# EAGLE library part 25S- (library Chips)
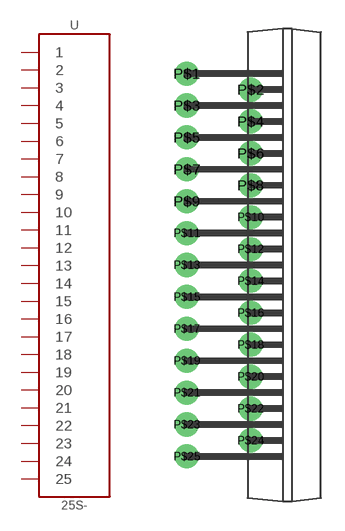
[diagram p7: symbol with the pads of 25TA; footprint 25TA]

Designator prefix U

## 25S-"  [25TA]
P$1  1
P$2  2
P$3  3
P$4  4
P$5  5
P$6  6
P$7  7
P$8  8
P$9  9
P$10  10
P$11  11
P$12  12
P$13  13
P$14  14
P$15  15
P$16  16
P$17  17
P$18  18
P$19  19
P$20  20
P$21  21
P$22  22
P$23  23
P$24  24
P$25  25

## Footprint 25TA (pad centres in mm)
drill 1 pad 1.422: P$1 -4,12; P$2 0,11; P$3 -4,10; P$4 0,9; P$5 -4,8; P$6 0,7; P$7 -4,6; P$8 0,5; P$9 -4,4; P$10 0,3; P$11 -4,2; P$12 0,1; P$13 -4,0; P$14 0,-1; P$15 -4,-2; P$16 0,-3; P$17 -4,-4; P$18 0,-5; P$19 -4,-6; P$20 0,-7; P$21 -4,-8; P$22 0,-9; P$23 -4,-10; P$24 0,-11; P$25 -4,-12